# Altium footprint library HANDS-FREEE-PcbLib-V1.10.PcbLib: 197 footprints (part 8 of 13)
Each footprint in its own frame and in the unit in brackets; x right, y up, seen from the top. Pads: shape width x height; smd on the part's side, far side on the other; paste and mask are expansions set on the pad; w line width, h text height; cw(c..) or ccw(c..) is an arc to the next point about the centre after c.
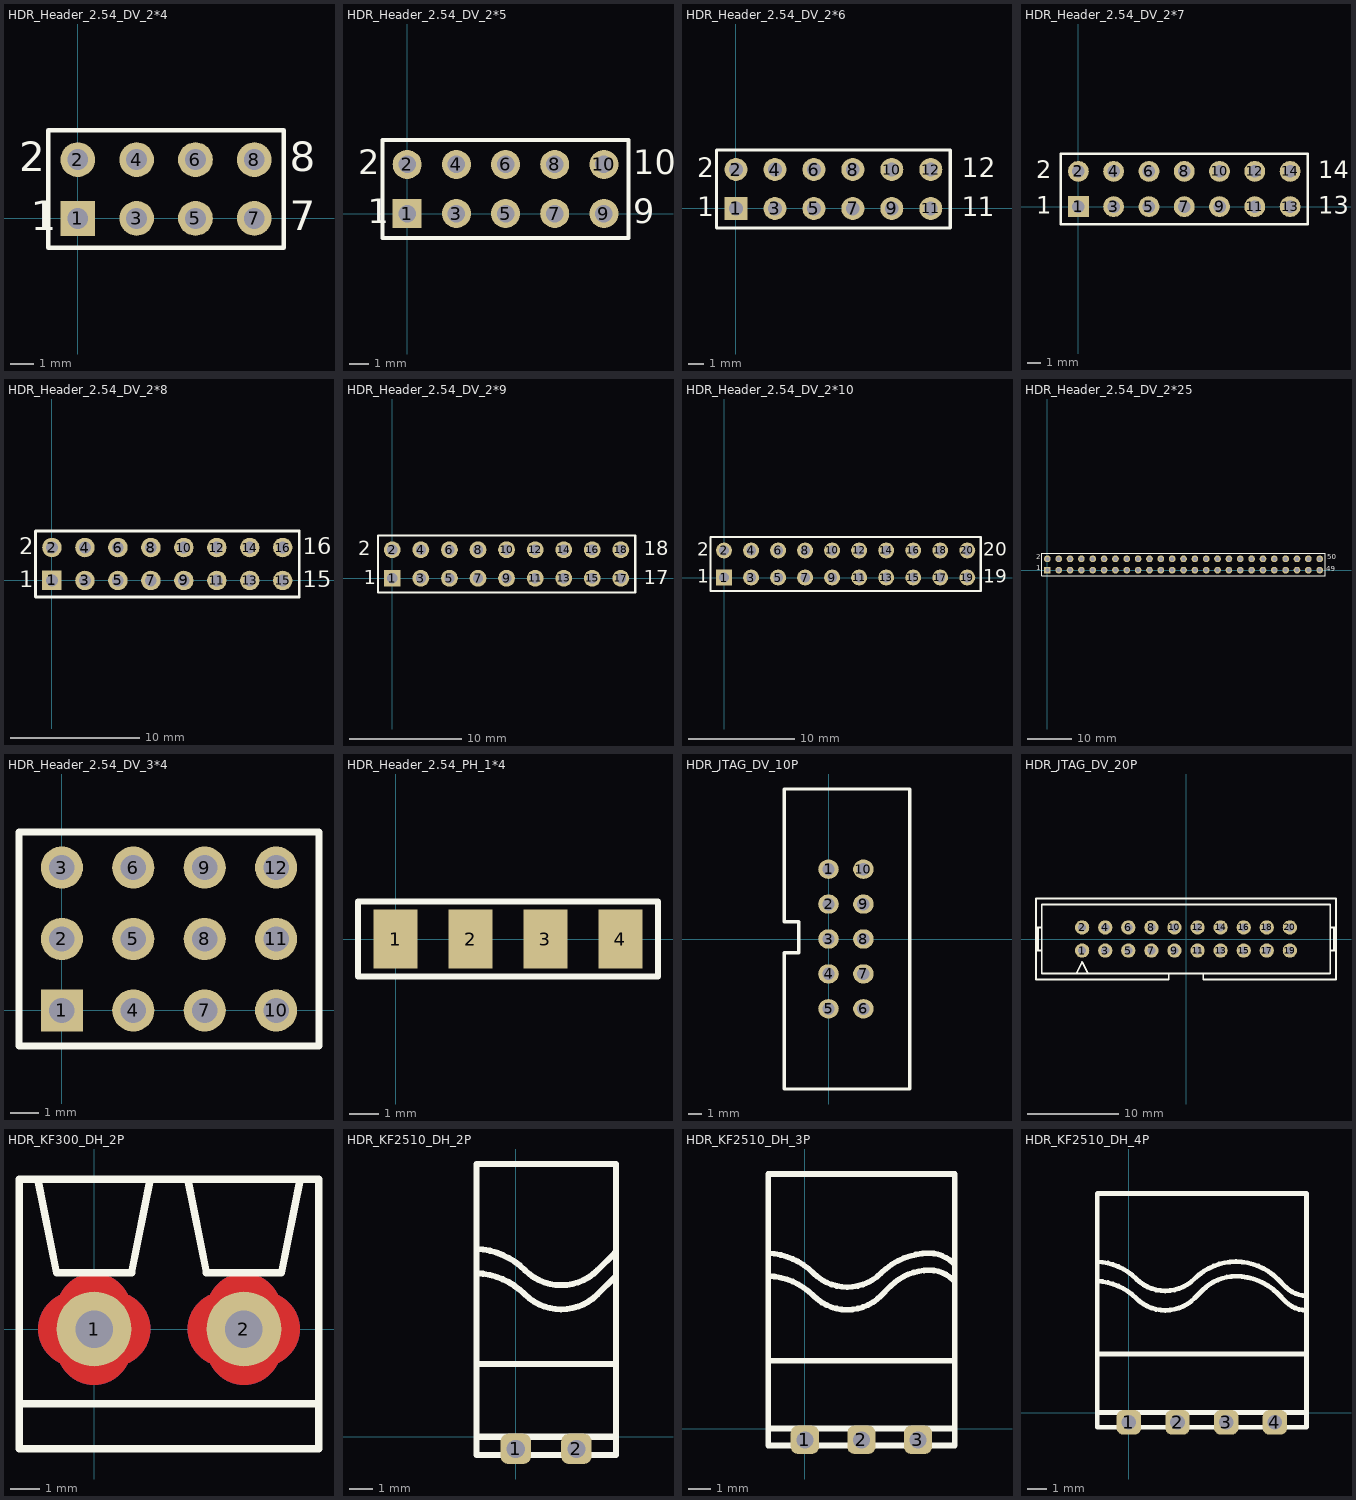
[diagram p7: the footprints below, top view; thin cyan lines are the x and y axes]

## HDR_Header_2.54_DV_2*4 [mm] "Connector; Header; 4x2 Position"
pads (8):
  rect 1.5x1.5 hole 0.9: 1(0,0)
  round 1.5 hole 0.9: 2(0,2.54) 3(2.54,0) 4(2.54,2.54) 5(5.08,0) 6(5.08,2.54) 7(7.62,0) 8(7.62,2.54)
Top Overlay:
  lines w0.2: -1.27,-1.27 8.89,-1.27 8.89,3.81 -1.27,3.81 -1.27,-1.27
  text "2" at -2.54,2.032 h1.27
  text "1" at -2.032,-0.508 h1.27
  text "7" at 9.144,-0.508 h1.27
  text "8" at 9.144,2.032 h1.27

## HDR_Header_2.54_DV_2*5 [mm] "Connector; Header; 5x2 Position"
pads (10):
  rect 1.5x1.5 hole 0.9: 1(0,0)
  round 1.5 hole 0.9: 2(0,2.54) 3(2.54,0) 4(2.54,2.54) 5(5.08,0) 6(5.08,2.54) 7(7.62,0) 8(7.62,2.54) 9(10.16,0) 10(10.16,2.54)
Top Overlay:
  lines w0.2: -1.27,-1.27 -1.27,3.81 11.43,3.81 11.43,-1.27 -1.27,-1.27
  text "2" at -2.54,2.032 h1.27
  text "1" at -2.032,-0.508 h1.27
  text "9" at 11.684,-0.508 h1.27
  text "10" at 11.684,2.032 h1.27

## HDR_Header_2.54_DV_2*6 [mm] "Connector; Header; 6x2 Position"
pads (12):
  rect 1.5x1.5 hole 0.9: 1(0,0)
  round 1.5 hole 0.9: 2(0,2.54) 3(2.54,0) 4(2.54,2.54) 5(5.08,0) 6(5.08,2.54) 7(7.62,0) 8(7.62,2.54) 9(10.16,0) 10(10.16,2.54) 11(12.7,0) 12(12.7,2.54)
Top Overlay:
  lines w0.2: -1.27,-1.27 -1.27,3.81 13.97,3.81 13.97,-1.27 -1.27,-1.27
  text "2" at -2.54,2.032 h1.27
  text "1" at -2.54,-0.508 h1.27
  text "1" at 14.732,-0.508 h1.27
  text "1" at 15.748,-0.508 h1.27
  text "12" at 14.732,2.032 h1.27

## HDR_Header_2.54_DV_2*7 [mm] "Connector; Header; 7x2 Position"
pads (14):
  rect 1.5x1.5 hole 0.9: 1(0,0)
  round 1.5 hole 0.9: 2(0,2.54) 3(2.54,0) 4(2.54,2.54) 5(5.08,0) 6(5.08,2.54) 7(7.62,0) 8(7.62,2.54) 9(10.16,0) 10(10.16,2.54) 11(12.7,0) 12(12.7,2.54) 13(15.24,0) 14(15.24,2.54)
Top Overlay:
  lines w0.2: -1.27,-1.27 16.51,-1.27 16.51,3.81 -1.27,3.81 -1.27,-1.27
  text "13" at 17.272,-0.508 h1.27
  text "14" at 17.272,2.032 h1.27
  text "1" at -3.048,-0.508 h1.27
  text "2" at -3.048,2.032 h1.27

## HDR_Header_2.54_DV_2*8 [mm] "Connector; Header; 8x2 Position"
pads (16):
  rect 1.5x1.5 hole 0.9: 1(0,0)
  round 1.5 hole 0.9: 2(0,2.54) 3(2.54,0) 4(2.54,2.54) 5(5.08,0) 6(5.08,2.54) 7(7.62,0) 8(7.62,2.54) 9(10.16,0) 10(10.16,2.54) 11(12.7,0) 12(12.7,2.54) 13(15.24,0) 14(15.24,2.54) 15(17.78,0) 16(17.78,2.54)
Top Overlay:
  lines w0.2: -1.27,-1.27 -1.27,3.81 19.05,3.81 19.05,-1.27 -1.27,-1.27
  text "2" at -2.54,2.032 h1.27
  text "1" at -2.54,-0.508 h1.27
  text "15" at 19.304,-0.508 h1.27
  text "16" at 19.304,2.032 h1.27

## HDR_Header_2.54_DV_2*9 [mm] "Connector; Header; 9x2 Position"
pads (18):
  rect 1.5x1.5 hole 0.9: 1(0,0)
  round 1.5 hole 0.9: 2(0,2.54) 3(2.54,0) 4(2.54,2.54) 5(5.08,0) 6(5.08,2.54) 7(7.62,0) 8(7.62,2.54) 9(10.16,0) 10(10.16,2.54) 11(12.7,0) 12(12.7,2.54) 13(15.24,0) 14(15.24,2.54) 15(17.78,0) 16(17.78,2.54) 17(20.32,0) 18(20.32,2.54)
Top Overlay:
  lines w0.2: -1.27,-1.27 -1.27,3.81 21.59,3.81 21.59,-1.27 -1.27,-1.27
  text "2" at -3.048,2.032 h1.27
  text "1" at -2.54,-0.508 h1.27
  text "17" at 22.352,-0.508 h1.27
  text "18" at 22.352,2.032 h1.27

## HDR_Header_2.54_DV_2*10 [mm] "Connector; Header; 10x2 Position"
pads (20):
  rect 1.5x1.5 hole 0.9: 1(0,0)
  round 1.5 hole 0.9: 2(0,2.54) 3(2.54,0) 4(2.54,2.54) 5(5.08,0) 6(5.08,2.54) 7(7.62,0) 8(7.62,2.54) 9(10.16,0) 10(10.16,2.54) 11(12.7,0) 12(12.7,2.54) 13(15.24,0) 14(15.24,2.54) 15(17.78,0) 16(17.78,2.54) 17(20.32,0) 18(20.32,2.54) 19(22.86,0) 20(22.86,2.54)
Top Overlay:
  lines w0.2: -1.27,-1.27 0.635,-1.27 24.13,-1.27 24.13,3.81 0.635,3.81 -1.27,3.81 -1.27,-1.27
  text "20" at 24.384,2.032 h1.27
  text "19" at 24.384,-0.508 h1.27
  text "1" at -2.54,-0.508 h1.27
  text "2" at -2.54,2.032 h1.27

## HDR_Header_2.54_DV_2*25 [mm] "Connector; Header; 10x2 Position"
pads (50):
  rect 1.5x1.5 hole 0.9: 1(0,0)
  round 1.5 hole 0.9: 2(0,2.54) 3(2.54,0) 4(2.54,2.54) 5(5.08,0) 6(5.08,2.54) 7(7.62,0) 8(7.62,2.54) 9(10.16,0) 10(10.16,2.54) 11(12.7,0) 12(12.7,2.54) 13(15.24,0) 14(15.24,2.54) 15(17.78,0) 16(17.78,2.54) 17(20.32,0) 18(20.32,2.54) 19(22.86,0) 20(22.86,2.54) 21(25.4,0) 22(25.4,2.54) 23(27.94,0) 24(27.94,2.54) 25(30.48,0) 26(30.48,2.54) 27(33.02,0) 28(33.02,2.54) 29(35.56,0) 30(35.56,2.54) 31(38.1,0) 32(38.1,2.54) 33(40.64,0) 34(40.64,2.54) 35(43.18,0) 36(43.18,2.54) 37(45.72,0) 38(45.72,2.54) 39(48.26,0) 40(48.26,2.54) 41(50.8,0) 42(50.8,2.54) 43(53.34,0) 44(53.34,2.54) 45(55.88,0) 46(55.88,2.54) 47(58.42,0) 48(58.42,2.54) 49(60.96,0) 50(60.96,2.54)
Top Overlay:
  lines w0.2: -1.27,-1.27 0.635,-1.27 62.23,-1.27 62.23,3.81 0.635,3.81 -1.27,3.81 -1.27,-1.27
  text "49" at 62.484,-0.635 h2
  text "50" at 62.611,2.032 h2
  text "1" at -2.54,-0.508 h2
  text "2" at -2.54,2.032 h2

## HDR_Header_2.54_DV_3*4 [mm] "Connector; Header; 10x2 Position"
pads (12):
  rect 1.5x1.5 hole 0.9: 1(0,0)
  round 1.5 hole 0.9: 2(0,2.54) 3(0,5.08) 4(2.54,0) 5(2.54,2.54) 6(2.54,5.08) 7(5.08,0) 8(5.08,2.54) 9(5.08,5.08) 10(7.62,0) 11(7.62,2.54) 12(7.62,5.08)
Top Overlay:
  lines w0.254: -1.524,-1.27 -1.524,6.35 9.144,6.35 9.144,-1.27 -1.524,-1.27

## HDR_Header_2.54_PH_1*4 [mm] "Connector; Header; 4 Position"
pads (4):
  rect 1.5x2 smd: 1(0,0) 2(2.54,0) 3(5.08,0) 4(7.62,0)
Top Overlay:
  lines w0.2: -1.27,-1.27 8.89,-1.27 8.89,1.27 -1.27,1.27 -1.27,-1.27

## HDR_JTAG_DV_10P [mil]
pads (10):
  oval 59x55 hole 35.4: 1(0,200) 2(0,100) 3(0,0) 4(0,-100) 5(0,-200) 6(100,-200) 7(100,-100) 8(100,0) 9(100,100) 10(100,200)
Top Overlay:
  lines w10: -127,-40 -127,-430 233,-430 233,430 190,430 -80,430 -127,430 -127,50 ; -126,-40 -96,-40 -86,-40 -86,0 -86,50 -96,50 -126,50 ; -80,-430 190,-430

## HDR_JTAG_DV_20P [mil]
pads (20):
  round 62 hole 35: 1(-450,-50) 2(-450,50) 3(-350,-50) 4(-350,50) 5(-250,-50) 6(-250,50) 7(-150,-50) 8(-150,50) 9(-50,-50) 10(-50,50) 11(50,-50) 12(50,50) 13(150,-50) 14(150,50) 15(250,-50) 16(250,50) 17(350,-50) 18(350,50) 19(450,-50) 20(450,50)
Top Overlay:
  lines w8: -650,-50 -625,-50 ; -650,50 -625,50 ; -641.67,-50 -641.67,50 ; -475,-150 -450,-100 -425,-150 ; -339.57,-175 -75,-175 -75,-150 ; -325,-175 -650,-175 -650,175 650,175 650,-175 325,-175 75,-175 75,-150 ; 625,-50 650,-50 ; 625,50 650,50 ; 641.67,-50 641.67,50 ; -75,-150 75,-150 ; -75,-150 -625,-150 -625,150 625,150 625,-150 75,-150

## HDR_KF300_DH_2P [mil]
pads (2):
  round 100 hole 50: 1(0,0) 2(200,0)
Top Layer:
  lines w100: -25,0 0,0 ; 0,-25 0,0 ; 0,25 0,0 ; 25,0 0,0 ; 175,0 200,0 ; 200,-25 200,0 ; 200,25 200,0 ; 225,0 200,0
Bottom Layer:
  lines w100: -25,0 0,0 ; 0,-25 0,0 ; 0,25 0,0 ; 25,0 0,0 ; 175,0 200,0 ; 200,-25 200,0 ; 200,25 200,0 ; 225,0 200,0
Top Overlay:
  lines w10: -100,-100 275,-100 300,-100 ; -75,200 -50,75 0,75 50,75 75,200 ; 125,200 150,75 200,75 250,75 275,200 ; -100,-160 -100,200 300,200 300,-160 -100,-160
Bottom Solder:
  lines w100: -25,0 0,0 ; 0,-25 0,0 ; 0,25 0,0 ; 25,0 0,0 ; 175,0 200,0 ; 200,-25 200,0 ; 200,25 200,0 ; 225,0 200,0

## HDR_KF2510_DH_2P [mil]
pads (2):
  rrect50% 50x50 hole 30: 1(0,-20) 2(100,-20)
Top Overlay:
  lines w10: -65,269.9 cw(c-70,149.29) 15.36,234.64 ccw(c74.85,294.14) 74.85,210 ccw(c74.85,294.85) 134.85,234.85 162.93,262.93 ; -65,309.9 cw(c-70,189.29) 15.36,274.64 ccw(c74.85,334.14) 74.85,250 ccw(c74.85,334.85) 134.85,274.85 162.93,302.93 ; -60,120 165,120 ; -65,0 -65,450 -60,450 165,450 165,0 ; -65,0 165,0 ; -65,0 -65,-30 165,-30 165,0

## HDR_KF2510_DH_3P [mil]
pads (3):
  rrect50% 50x50 hole 30: 1(0,-20) 2(100,-20) 3(200,-20)
Top Overlay:
  lines w10: -65,269.9 cw(c-70,149.29) 15.36,234.64 ccw(c74.85,294.14) 74.85,210 ccw(c74.85,294.85) 134.85,234.85 151.72,251.72 cw(c220,183.43) 220,280 cw(c220,219.64) 262.68,262.32 265,260 ; -65,309.9 cw(c-70,189.29) 15.36,274.64 ccw(c74.85,334.14) 74.85,250 ccw(c74.85,334.85) 134.85,274.85 cw(c219.71,190) 219.71,310 cw(c219.71,248.93) 262.89,292.11 265,290 ; -60,120 265,120 ; -65,0 -65,450 -60,450 265,450 265,0 ; -65,0 265,0 ; -65,0 -65,-30 265,-30 265,0

## HDR_KF2510_DH_4P [mil]
pads (4):
  rrect50% 50x50 hole 30: 1(0,-20) 2(100,-20) 3(200,-20) 4(300,-20)
Top Overlay:
  lines w10: -65,269.9 cw(c-70,149.29) 15.36,234.64 ccw(c74.85,294.14) 74.85,210 ccw(c74.85,294.85) 134.85,234.85 151.72,251.72 cw(c220,183.43) 220,280 ; -65,309.9 cw(c-70,189.29) 15.36,274.64 ccw(c74.85,334.14) 74.85,250 ccw(c74.85,334.85) 134.85,274.85 cw(c219.71,190) 219.71,310 220,310 cw(c220,189.29) 305.36,274.64 322.32,257.68 ccw(c365,300.36) 365,240 ; -60,120 365,120 ; 220.15,280 cw(c220.15,159.29) 305.5,244.64 322.47,227.68 ccw(c365.15,270.36) 365.15,210 ; -65,0 -65,-30 365,-30 365,0 ; -65,0 365,0 ; -65,0 -65,450 -60,450 365,450 365,0